# EAGLE library part LTC3265 (library linear-technology)
Low Noise Dual Supply with Boost and Inverting Charge Pumps
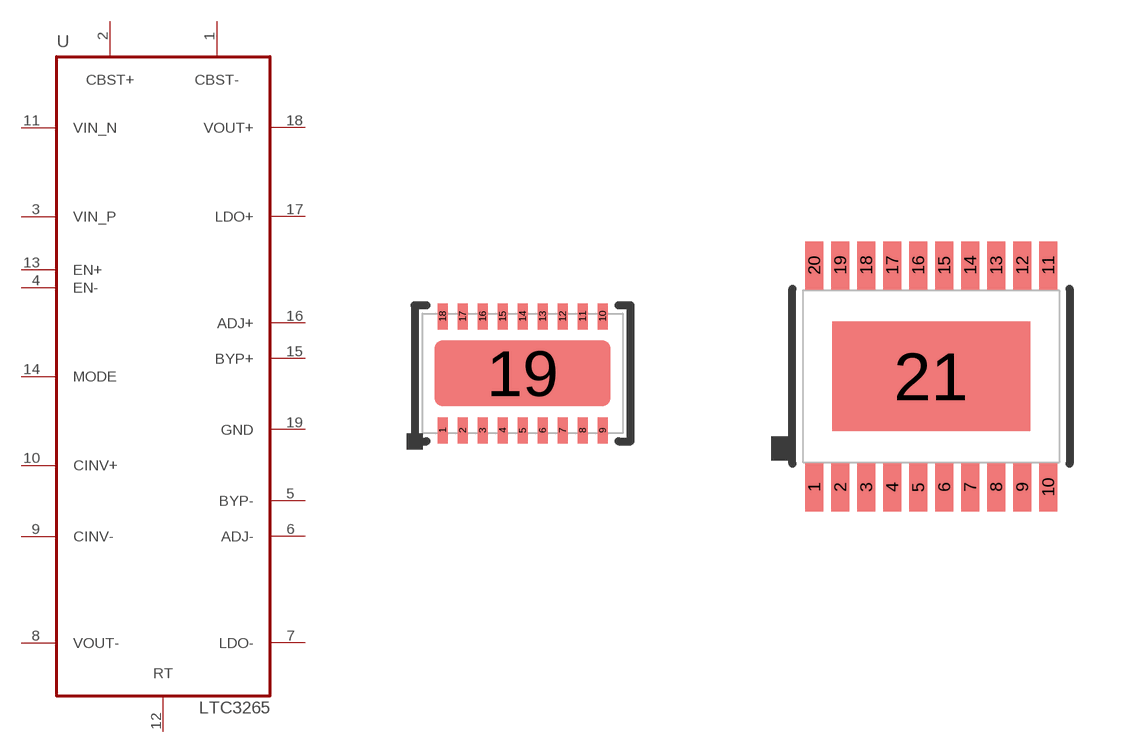
[diagram p64: symbol with the pads of DFN18; footprints DFN18, TSSOP20-CB]

Designator prefix U

## LTC3265DHC  [DFN18]
1  CBST-  in
2  CBST+  in
3  VIN_P  in
4  EN-  in
5  BYP-  in
6  ADJ-  in
7  LDO-  in
8  VOUT-  pas
9  CINV-  in
10  CINV+  in
11  VIN_N  in
12  RT
13  EN+  in
14  MODE  in
15  BYP+  in
16  ADJ+  in
17  LDO+  in
18  VOUT+  pas
19  GND  in

## LTC3265FE  [TSSOP20-CB]
2  CBST-  in
3  CBST+  in
4  VIN_P  in
5  EN-  in
6  BYP-  in
7  ADJ-  in
8  LDO-  in
9  VOUT-  pas
10  CINV-  in
12  CINV+  in
13  VIN_N  in
14  RT
15  EN+  in
16  MODE  in
17  BYP+  in
18  ADJ+  in
19  LDO+  in
20  VOUT+  pas
21  GND  in

## Footprint DFN18 (pad centres in mm)
DFN-18 - DHC Package 18-Lead Plastic DFN (5mm × 3mm)
smd 0.25 x 0.65: 1 -2,-1.425; 2 -1.5,-1.425; 3 -1,-1.425; 4 -0.5,-1.425; 5 0,-1.425; 6 0.5,-1.425; 7 1,-1.425; 8 1.5,-1.425; 9 2,-1.425; 10 2,1.425; 11 1.5,1.425; 12 1,1.425; 13 0.5,1.425; 14 0,1.425; 15 -0.5,1.425; 16 -1,1.425; 17 -1.5,1.425; 18 -2,1.425
smd 4.4 x 1.65: 19 0,0

## Footprint TSSOP20-CB (pad centres in mm)
Thin Shrink Small Outline Plastic 20 FE Package 20-Lead Plastic TSSOP (4.4mm) (Reference LTC DWG # 05-08-1663 Rev J) Exposed Pad Variation CB
smd 0.45 x 1.2: 1 -2.925,-2.775; 2 -2.275,-2.775; 3 -1.625,-2.775; 4 -0.975,-2.775; 5 -0.325,-2.775; 6 0.325,-2.775; 7 0.975,-2.775; 8 1.625,-2.775; 9 2.275,-2.775; 10 2.925,-2.775; 11 2.925,2.775; 12 2.275,2.775; 13 1.625,2.775; 14 0.975,2.775; 15 0.325,2.775; 16 -0.325,2.775; 17 -0.975,2.775; 18 -1.625,2.775; 19 -2.275,2.775; 20 -2.925,2.775
smd 4.95 x 2.74: 21 0,0